# Altium footprint library PinHeader.PcbLib: 118 footprints (part 3 of 8)
Each footprint in its own frame and in the unit in brackets; x right, y up, seen from the top. Pads: shape width x height; smd on the part's side, far side on the other; paste and mask are expansions set on the pad; w line width, h text height; cw(c..) or ccw(c..) is an arc to the next point about the centre after c.
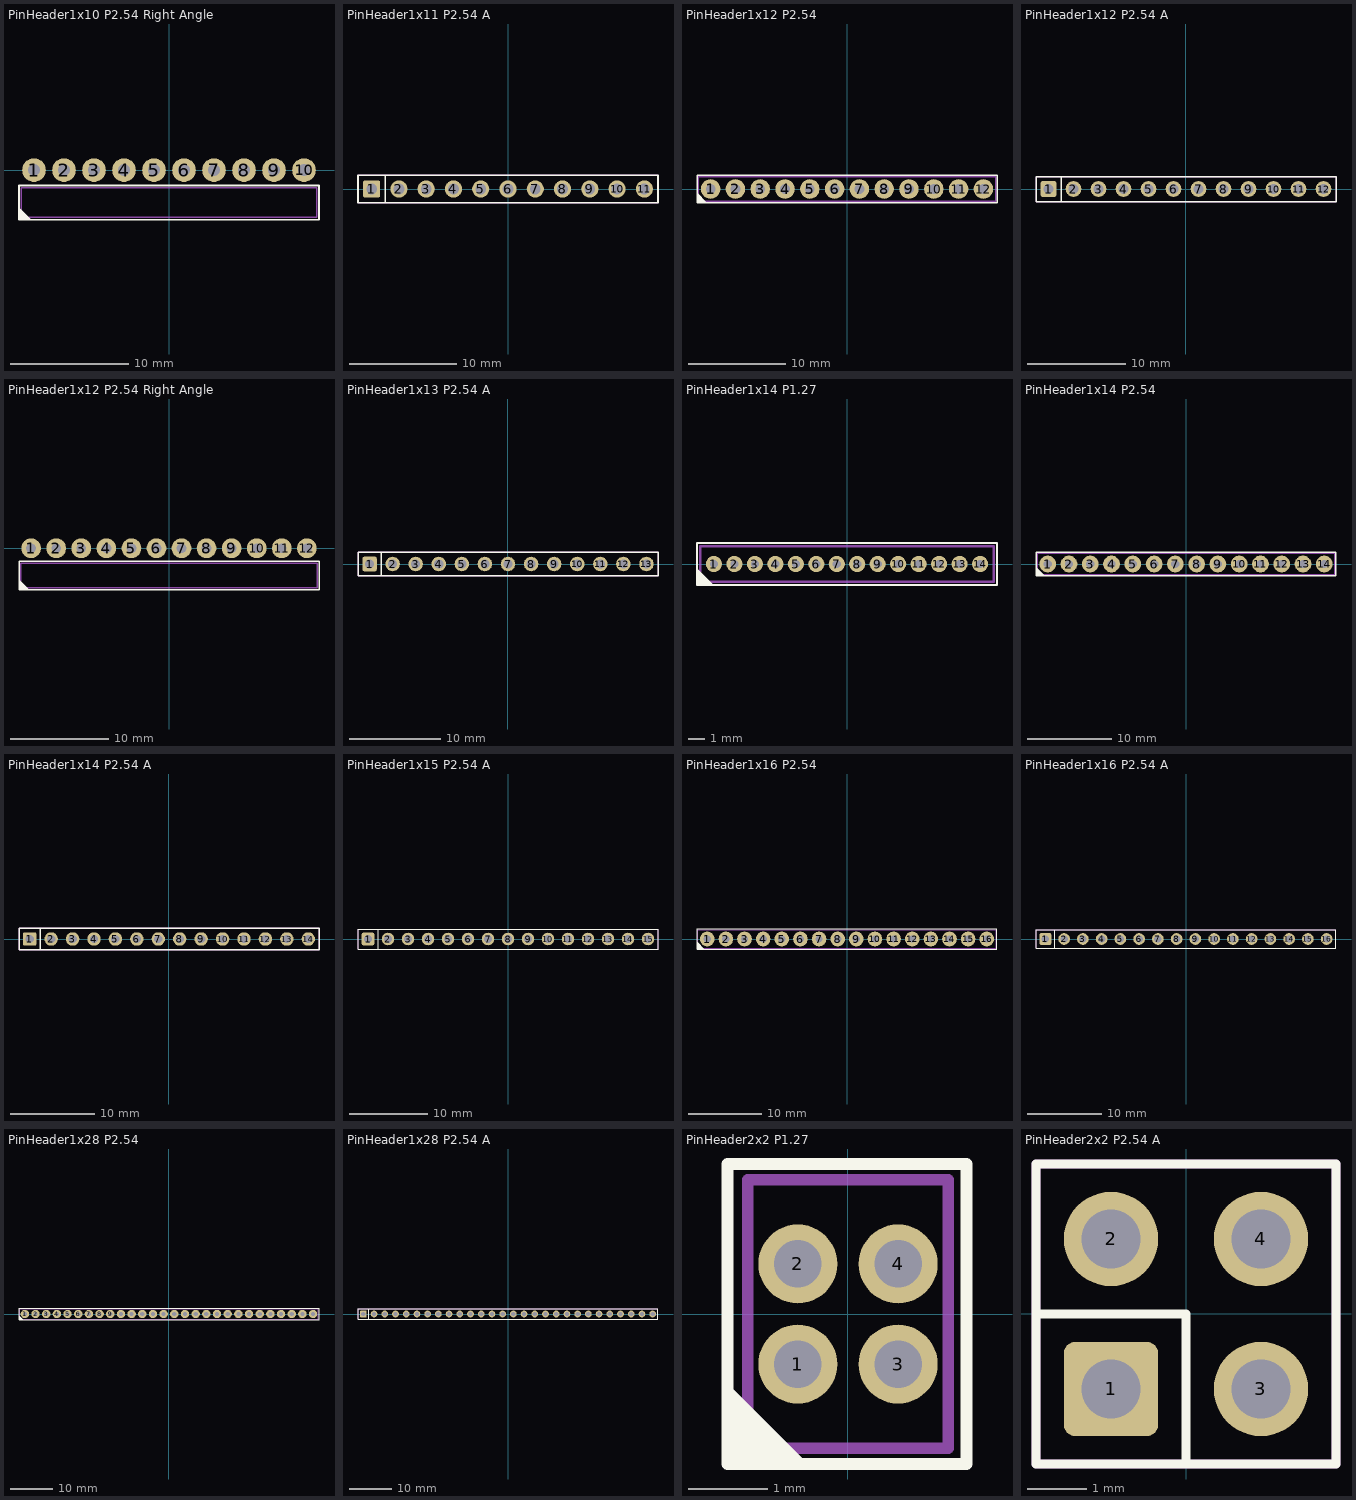
[diagram p2: the footprints below, top view; thin cyan lines are the x and y axes]

## PinHeader1x10 P2.54 Right Angle [mm] "Plug connector"
height 2.4
pads (10):
  round 2 hole 1: 1(-11.43,0) 2(-8.89,0) 3(-6.35,0) 4(-3.81,0) 5(-1.27,0) 6(1.27,0) 7(3.81,0) 8(6.35,0) 9(8.89,0) 10(11.43,0)
Top Overlay:
  region: -12.7,-4.2 -12.7,-3.184 -11.684,-4.2
  lines w0.15: -12.7,-4.2 12.7,-4.2 12.7,-1.3 -12.7,-1.3 -12.7,-4.2
Mechanical 13:
  lines w0.15: -12.5,-4 12.5,-4 12.5,-1.5 -12.5,-1.5 -12.5,-4
3D body: height 1.55, standoff -2.5, extent 11.13,-0.3 11.73,0.3
3D body: height 1.55, standoff 0.95, extent 11.13,-10 11.73,0
3D body: height 1.55, standoff 0.95, extent 8.59,-10 9.19,0
3D body: height 1.55, standoff -2.5, extent 8.59,-0.3 9.19,0.3
3D body: height 1.55, standoff -2.5, extent 6.05,-0.3 6.65,0.3
3D body: height 1.55, standoff 0.95, extent 6.05,-10 6.65,0
3D body: height 1.55, standoff 0.95, extent 3.51,-10 4.11,0
3D body: height 1.55, standoff -2.5, extent 3.51,-0.3 4.11,0.3
3D body: height 1.55, standoff -2.5, extent -4.11,-0.3 -3.51,0.3
3D body: height 1.55, standoff 0.95, extent -4.11,-10 -3.51,0
3D body: height 1.55, standoff -2.5, extent 0.97,-0.3 1.57,0.3
3D body: height 1.55, standoff 0.95, extent 0.97,-10 1.57,0
3D body: height 1.55, standoff 0.95, extent -1.57,-10 -0.97,0
3D body: height 1.55, standoff -2.5, extent -1.57,-0.3 -0.97,0.3
3D body: height 1.55, standoff -2.5, extent -9.19,-0.3 -8.59,0.3
3D body: height 1.55, standoff 0.95, extent -9.19,-10 -8.59,0
3D body: height 1.55, standoff 0.95, extent -11.73,-10 -11.13,0
3D body: height 2.4, standoff 0, extent -12.54,-4 12.5,-1.5
3D body: height 1.55, standoff -2.5, extent -11.73,-0.3 -11.13,0.3
3D body: height 1.55, standoff 0.95, extent -6.65,-10 -6.05,0
3D body: height 1.55, standoff -2.5, extent -6.65,-0.3 -6.05,0.3

## PinHeader1x11 P2.54 A [mm] "Plug connector"
height 8.5
pads (11):
  rrect25% 1.6x1.6 hole 1: 1(-12.7,0)
  round 1.6 hole 1: 2(-10.16,0) 3(-7.62,0) 4(-5.08,0) 5(-2.54,0) 6(0,0) 7(2.54,0) 8(5.08,0) 9(7.62,0) 10(10.16,0) 11(12.7,0)
Top Overlay:
  lines w0.15: -11.43,-1.27 -11.43,1.27 ; -13.97,-1.27 -13.97,1.27 13.97,1.27 13.97,-1.27 -13.97,-1.27
Mechanical 13:
  lines w0.15: -13.97,-1.27 13.97,-1.27 13.97,1.27 -13.97,1.27 -13.97,-1.27
3D body: height 8.5, standoff 2.6, extent -13.018,-0.318 13.018,0.318
3D body: height 2.5, standoff 0.1, extent -13.97,-1.27 13.97,1.27

## PinHeader1x12 P2.54 [mm] "Plug connector"
height 8.5
pads (12):
  round 2 hole 1: 1(-13.97,0) 2(-11.43,0) 3(-8.89,0) 4(-6.35,0) 5(-3.81,0) 6(-1.27,0) 7(1.27,0) 8(3.81,0) 9(6.35,0) 10(8.89,0) 11(11.43,0) 12(13.97,0)
Top Overlay:
  region: -15.367,-1.397 -15.367,-0.381 -14.351,-1.397
  lines w0.15: -15.367,-1.397 15.367,-1.397 15.367,1.397 -15.367,1.397 -15.367,-1.397
Mechanical 13:
  lines w0.15: -15.24,-1.27 -15.24,1.27 15.24,1.27 15.24,-1.27 -15.24,-1.27
3D body: height 8.5, standoff -2.5, extent 11.05,-0.38 11.811,0.381
3D body: height 8.5, standoff -2.5, extent 13.59,-0.38 14.351,0.381
3D body: height 8.5, standoff -2.5, extent 3.43,-0.38 4.191,0.381
3D body: height 8.5, standoff -2.5, extent 0.89,-0.38 1.651,0.381
3D body: height 8.5, standoff -2.5, extent -1.65,-0.38 -0.889,0.38
3D body: height 8.5, standoff -2.5, extent -6.73,-0.38 -5.969,0.38
3D body: height 8.5, standoff -2.5, extent -9.27,-0.38 -8.509,0.38
3D body: height 8.5, standoff -2.5, extent -11.81,-0.38 -11.05,0.38
3D body: height 8.5, standoff -2.5, extent -4.19,-0.38 -3.429,0.38
3D body: height 8.5, standoff -2.5, extent -14.35,-0.38 -13.59,0.38
3D body: height 2.54, standoff 0, extent -15.24,-1.27 15.24,1.27
3D body: height 8.5, standoff -2.5, extent 5.97,-0.38 6.731,0.38
3D body: height 8.5, standoff -2.5, extent 8.51,-0.38 9.271,0.38

## PinHeader1x12 P2.54 A [mm] "Plug connector"
height 8.5
pads (12):
  rrect25% 1.6x1.6 hole 1: 1(-13.97,0)
  round 1.6 hole 1: 2(-11.43,0) 3(-8.89,0) 4(-6.35,0) 5(-3.81,0) 6(-1.27,0) 7(1.27,0) 8(3.81,0) 9(6.35,0) 10(8.89,0) 11(11.43,0) 12(13.97,0)
Top Overlay:
  lines w0.15: -12.7,-1.27 -12.7,1.27 ; -15.24,-1.27 -15.24,1.27 15.24,1.27 15.24,-1.27 -15.24,-1.27
Mechanical 13:
  lines w0.15: -15.24,-1.27 15.24,-1.27 15.24,1.27 -15.24,1.27 -15.24,-1.27
3D body: height 8.5, standoff 2.6, extent -14.287,-0.318 14.287,0.318
3D body: height 2.5, standoff 0.1, extent -15.24,-1.27 15.24,1.27

## PinHeader1x12 P2.54 Right Angle [mm] "Plug connector"
height 2.4
pads (12):
  round 2 hole 1: 1(-13.97,0) 2(-11.43,0) 3(-8.89,0) 4(-6.35,0) 5(-3.81,0) 6(-1.27,0) 7(1.27,0) 8(3.81,0) 9(6.35,0) 10(8.89,0) 11(11.43,0) 12(13.97,0)
Top Overlay:
  region: -15.2,-4.2 -15.2,-3.184 -14.184,-4.2
  lines w0.15: -15.2,-4.2 -15.2,-1.3 15.2,-1.3 15.2,-4.2 -15.2,-4.2
Mechanical 13:
  lines w0.15: -15,-4 -15,-1.5 15,-1.5 15,-4 -15,-4
3D body: height 1.55, standoff -2.5, extent -9.19,-0.3 -8.59,0.3
3D body: height 1.55, standoff 0.95, extent -9.19,-10 -8.59,0
3D body: height 1.55, standoff -2.5, extent -14.27,-0.3 -13.67,0.3
3D body: height 2.4, standoff 0, extent -15,-4 15,-1.5
3D body: height 1.55, standoff 0.95, extent -14.27,-10 -13.67,0
3D body: height 1.55, standoff 0.95, extent -11.73,-10 -11.13,0
3D body: height 1.55, standoff -2.5, extent -11.73,-0.3 -11.13,0.3
3D body: height 1.55, standoff -2.5, extent -4.11,-0.3 -3.51,0.3
3D body: height 1.55, standoff 0.95, extent -4.11,-10 -3.51,0
3D body: height 1.55, standoff 0.95, extent -1.57,-10 -0.97,0
3D body: height 1.55, standoff -2.5, extent -1.57,-0.3 -0.97,0.3
3D body: height 1.55, standoff 0.95, extent -6.65,-10 -6.05,0
3D body: height 1.55, standoff -2.5, extent -6.65,-0.3 -6.05,0.3
3D body: height 1.55, standoff -2.5, extent 0.97,-0.3 1.57,0.3
3D body: height 1.55, standoff 0.95, extent 0.97,-10 1.57,0
3D body: height 1.55, standoff 0.95, extent 3.51,-10 4.11,0
3D body: height 1.55, standoff -2.5, extent 3.51,-0.3 4.11,0.3
3D body: height 1.55, standoff -2.5, extent 6.05,-0.3 6.65,0.3
3D body: height 1.55, standoff 0.95, extent 6.05,-10 6.65,0
3D body: height 1.55, standoff 0.95, extent 8.59,-10 9.19,0
3D body: height 1.55, standoff -2.5, extent 8.59,-0.3 9.19,0.3
3D body: height 1.55, standoff -2.5, extent 11.13,-0.3 11.73,0.3
3D body: height 1.55, standoff 0.95, extent 11.13,-10 11.73,0
3D body: height 1.55, standoff 0.95, extent 13.67,-10 14.27,0
3D body: height 1.55, standoff -2.5, extent 13.67,-0.3 14.27,0.3

## PinHeader1x13 P2.54 A [mm] "Plug connector"
height 8.5
pads (13):
  rrect25% 1.6x1.6 hole 1: 1(-15.24,0)
  round 1.6 hole 1: 2(-12.7,0) 3(-10.16,0) 4(-7.62,0) 5(-5.08,0) 6(-2.54,0) 7(0,0) 8(2.54,0) 9(5.08,0) 10(7.62,0) 11(10.16,0) 12(12.7,0) 13(15.24,0)
Top Overlay:
  lines w0.15: -13.97,-1.27 -13.97,1.27 ; -16.51,-1.27 16.51,-1.27 16.51,1.27 -16.51,1.27 -16.51,-1.27
Mechanical 13:
  lines w0.15: -16.51,-1.27 -16.51,1.27 16.51,1.27 16.51,-1.27 -16.51,-1.27
3D body: height 2.5, standoff 0.1, extent -16.51,-1.27 16.51,1.27
3D body: height 8.5, standoff 2.6, extent -15.557,-0.318 15.557,0.318

## PinHeader1x14 P1.27 [mm] "Plug connector"
height 5.3
pads (14):
  round 1 hole 0.5: 1(-8.255,0) 2(-6.985,0) 3(-5.715,0) 4(-4.445,0) 5(-3.175,0) 6(-1.905,0) 7(-0.635,0) 8(0.635,0) 9(1.905,0) 10(3.175,0) 11(4.445,0) 12(5.715,0) 13(6.985,0) 14(8.255,0)
Top Overlay:
  region: -9.3,-1.3 -9.3,-0.284 -8.284,-1.3
  lines w0.15: -9.3,-1.3 -9.3,1.3 9.3,1.3 9.3,-1.3 -9.3,-1.3
Mechanical 13:
  lines w0.15: -9.1,-1.1 9.1,-1.1 9.1,1.1 -9.1,1.1 -9.1,-1.1
3D body "pcb_connector_850-80-007-10-001101.stp": height 5.2, standoff -2.9, extent -9.095,-1.1 0.205,1.1
3D body "pcb_connector_850-80-007-10-001101.stp": height 5.2, standoff -2.9, extent -0.205,-1.1 9.095,1.1

## PinHeader1x14 P2.54 [mm] "Plug connector"
height 8.5
pads (14):
  round 2 hole 1: 1(-16.51,0) 2(-13.97,0) 3(-11.43,0) 4(-8.89,0) 5(-6.35,0) 6(-3.81,0) 7(-1.27,0) 8(1.27,0) 9(3.81,0) 10(6.35,0) 11(8.89,0) 12(11.43,0) 13(13.97,0) 14(16.51,0)
Top Overlay:
  region: -17.907,-1.397 -17.907,-0.381 -16.891,-1.397
  lines w0.15: 17.88,-1.397 -17.907,-1.397 -17.907,1.397 17.88,1.397 ; 17.907,-1.397 17.907,1.397
Mechanical 13:
  lines w0.15: -17.78,-1.27 -17.78,1.27 17.78,1.27 17.78,-1.27 -17.78,-1.27
3D body: height 8.5, standoff -2.5, extent 13.59,-0.38 14.351,0.38
3D body: height 8.5, standoff -2.5, extent 16.13,-0.38 16.891,0.38
3D body: height 8.5, standoff -2.5, extent 8.51,-0.38 9.271,0.381
3D body: height 8.5, standoff -2.5, extent 11.05,-0.38 11.811,0.381
3D body: height 8.5, standoff -2.5, extent 0.89,-0.38 1.651,0.381
3D body: height 8.5, standoff -2.5, extent -1.65,-0.38 -0.889,0.381
3D body: height 8.5, standoff -2.5, extent -4.19,-0.38 -3.429,0.38
3D body: height 8.5, standoff -2.5, extent -9.27,-0.38 -8.509,0.38
3D body: height 8.5, standoff -2.5, extent -11.81,-0.38 -11.049,0.38
3D body: height 8.5, standoff -2.5, extent -14.35,-0.38 -13.59,0.38
3D body: height 8.5, standoff -2.5, extent -6.73,-0.38 -5.969,0.38
3D body: height 8.5, standoff -2.5, extent -16.89,-0.38 -16.13,0.38
3D body: height 2.54, standoff 0, extent -17.78,-1.27 17.78,1.27
3D body: height 8.5, standoff -2.5, extent 3.43,-0.38 4.191,0.38
3D body: height 8.5, standoff -2.5, extent 5.97,-0.38 6.731,0.38

## PinHeader1x14 P2.54 A [mm] "Plug connector"
height 8.5
pads (14):
  rrect25% 1.6x1.6 hole 1: 1(-16.51,0)
  round 1.6 hole 1: 2(-13.97,0) 3(-11.43,0) 4(-8.89,0) 5(-6.35,0) 6(-3.81,0) 7(-1.27,0) 8(1.27,0) 9(3.81,0) 10(6.35,0) 11(8.89,0) 12(11.43,0) 13(13.97,0) 14(16.51,0)
Top Overlay:
  lines w0.15: -15.24,-1.27 -15.24,1.27 ; -17.78,-1.27 17.78,-1.27 17.78,1.27 -17.78,1.27 -17.78,-1.27
Mechanical 13:
  lines w0.15: -17.78,-1.27 17.78,-1.27 17.78,1.27 -17.78,1.27 -17.78,-1.27
3D body: height 2.5, standoff 0.1, extent -17.78,-1.27 17.78,1.27
3D body: height 8.5, standoff 2.6, extent -16.828,-0.318 16.828,0.318

## PinHeader1x15 P2.54 A [mm] "Plug connector"
height 8.5
pads (15):
  rrect25% 1.6x1.6 hole 1: 1(-17.78,0)
  round 1.6 hole 1: 2(-15.24,0) 3(-12.7,0) 4(-10.16,0) 5(-7.62,0) 6(-5.08,0) 7(-2.54,0) 8(0,0) 9(2.54,0) 10(5.08,0) 11(7.62,0) 12(10.16,0) 13(12.7,0) 14(15.24,0) 15(17.78,0)
Top Overlay:
  lines w0.15: -16.51,-1.27 -16.51,1.27 ; -19.05,-1.27 19.05,-1.27 19.05,1.27 -19.05,1.27 -19.05,-1.27
Mechanical 13:
  lines w0.15: -19.05,-1.27 19.05,-1.27 19.05,1.27 -19.05,1.27 -19.05,-1.27
3D body: height 2.5, standoff 0.1, extent -19.05,-1.27 19.05,1.27
3D body: height 8.5, standoff 2.6, extent -18.098,-0.318 18.098,0.318

## PinHeader1x16 P2.54 [mm] "Plug connector"
height 8.5
pads (16):
  round 2 hole 1: 1(-19.05,0) 2(-16.51,0) 3(-13.97,0) 4(-11.43,0) 5(-8.89,0) 6(-6.35,0) 7(-3.81,0) 8(-1.27,0) 9(1.27,0) 10(3.81,0) 11(6.35,0) 12(8.89,0) 13(11.43,0) 14(13.97,0) 15(16.51,0) 16(19.05,0)
Top Overlay:
  region: -20.447,-1.397 -20.447,-0.381 -19.431,-1.397
  lines w0.15: -20.447,-1.397 20.447,-1.397 20.447,1.397 -20.447,1.397 -20.447,-1.397
Mechanical 13:
  lines w0.15: -20.32,-1.27 -20.32,1.27 20.32,1.27 20.32,-1.27 -20.32,-1.27
3D body: height 8.5, standoff -2.5, extent 18.67,-0.38 19.431,0.38
3D body: height 8.5, standoff -2.5, extent 16.13,-0.38 16.891,0.381
3D body: height 8.5, standoff -2.5, extent 5.97,-0.38 6.731,0.381
3D body: height 8.5, standoff -2.5, extent 8.51,-0.38 9.271,0.381
3D body: height 8.5, standoff -2.5, extent -1.65,-0.38 -0.889,0.381
3D body: height 8.5, standoff -2.5, extent -4.19,-0.38 -3.429,0.381
3D body: height 8.5, standoff -2.5, extent 11.05,-0.38 11.811,0.38
3D body: height 8.5, standoff -2.5, extent 13.59,-0.38 14.351,0.38
3D body: height 8.5, standoff -2.5, extent -6.73,-0.38 -5.969,0.38
3D body: height 8.5, standoff -2.5, extent -11.81,-0.38 -11.049,0.38
3D body: height 8.5, standoff -2.5, extent -14.35,-0.38 -13.589,0.38
3D body: height 8.5, standoff -2.5, extent -16.89,-0.38 -16.13,0.38
3D body: height 8.5, standoff -2.5, extent -9.27,-0.38 -8.509,0.38
3D body: height 8.5, standoff -2.5, extent -19.43,-0.38 -18.67,0.38
3D body: height 2.54, standoff 0, extent -20.32,-1.27 20.32,1.27
3D body: height 8.5, standoff -2.5, extent 0.89,-0.38 1.651,0.38
3D body: height 8.5, standoff -2.5, extent 3.43,-0.38 4.191,0.38

## PinHeader1x16 P2.54 A [mm] "Plug connector"
height 8.5
pads (16):
  rrect25% 1.6x1.6 hole 1: 1(-19.05,0)
  round 1.6 hole 1: 2(-16.51,0) 3(-13.97,0) 4(-11.43,0) 5(-8.89,0) 6(-6.35,0) 7(-3.81,0) 8(-1.27,0) 9(1.27,0) 10(3.81,0) 11(6.35,0) 12(8.89,0) 13(11.43,0) 14(13.97,0) 15(16.51,0) 16(19.05,0)
Top Overlay:
  lines w0.15: -17.78,-1.27 -17.78,1.27 ; -20.32,-1.27 -20.32,1.27 20.32,1.27 20.32,-1.27 -20.32,-1.27
Mechanical 13:
  lines w0.15: -20.32,-1.27 -20.32,1.27 20.32,1.27 20.32,-1.27 -20.32,-1.27
3D body: height 8.5, standoff 2.6, extent -19.367,-0.318 19.367,0.318
3D body: height 2.5, standoff 0.1, extent -20.32,-1.27 20.32,1.27

## PinHeader1x28 P2.54 [mm] "Plug connector"
height 8.5
pads (28):
  round 2 hole 1: 1(-34.29,0) 2(-31.75,0) 3(-29.21,0) 4(-26.67,0) 5(-24.13,0) 6(-21.59,0) 7(-19.05,0) 8(-16.51,0) 9(-13.97,0) 10(-11.43,0) 11(-8.89,0) 12(-6.35,0) 13(-3.81,0) 14(-1.27,0) 15(1.27,0) 16(3.81,0) 17(6.35,0) 18(8.89,0) 19(11.43,0) 20(13.97,0) 21(16.51,0) 22(19.05,0) 23(21.59,0) 24(24.13,0) 25(26.67,0) 26(29.21,0) 27(31.75,0) 28(34.29,0)
Top Overlay:
  region: -35.687,-1.397 -35.687,-0.381 -34.671,-1.397
  lines w0.15: -35.687,-1.397 35.7,-1.397 35.7,1.397 -35.687,1.397 -35.687,-1.397
Mechanical 13:
  lines w0.15: -35.56,-1.27 -35.56,1.27 35.56,1.27 35.56,-1.27 -35.56,-1.27
3D body: height 8.5, standoff -2.5, extent 26.29,-0.38 27.051,0.38
3D body: height 8.5, standoff -2.5, extent 23.75,-0.38 24.511,0.38
3D body: height 8.5, standoff -2.5, extent 13.59,-0.38 14.351,0.38
3D body: height 8.5, standoff -2.5, extent 5.97,-0.38 6.73,0.38
3D body: height 8.5, standoff -2.5, extent 8.51,-0.38 9.271,0.38
3D body: height 8.5, standoff -2.5, extent 11.05,-0.38 11.811,0.38
3D body: height 8.5, standoff -2.5, extent 16.13,-0.38 16.891,0.38
3D body: height 8.5, standoff -2.5, extent 33.91,-0.38 34.671,0.38
3D body: height 8.5, standoff -2.5, extent 18.67,-0.38 19.431,0.381
3D body: height 8.5, standoff -2.5, extent 21.21,-0.38 21.971,0.381
3D body: height 8.5, standoff -2.5, extent 31.37,-0.38 32.131,0.381
3D body: height 8.5, standoff -2.5, extent 28.83,-0.38 29.591,0.381
3D body: height 8.5, standoff -2.5, extent 3.43,-0.38 4.191,0.38
3D body: height 8.5, standoff -2.5, extent 0.89,-0.38 1.651,0.381
3D body: height 8.5, standoff -2.5, extent -9.27,-0.38 -8.509,0.381
3D body: height 8.5, standoff -2.5, extent -6.73,-0.38 -5.969,0.381
3D body: height 8.5, standoff -2.5, extent -16.89,-0.38 -16.129,0.381
3D body: height 8.5, standoff -2.5, extent -19.43,-0.38 -18.669,0.381
3D body: height 8.5, standoff -2.5, extent -4.19,-0.38 -3.429,0.38
3D body: height 8.5, standoff -2.5, extent -1.65,-0.38 -0.889,0.38
3D body: height 8.5, standoff -2.5, extent -21.97,-0.38 -21.209,0.38
3D body: height 8.5, standoff -2.5, extent -27.05,-0.38 -26.289,0.38
3D body: height 8.5, standoff -2.5, extent -29.59,-0.38 -28.829,0.38
3D body: height 8.5, standoff -2.5, extent -32.13,-0.38 -31.37,0.38
3D body: height 8.5, standoff -2.5, extent -24.51,-0.38 -23.749,0.38
3D body: height 8.5, standoff -2.5, extent -34.67,-0.38 -33.91,0.38
3D body: height 2.54, standoff 0, extent -35.56,-1.27 35.56,1.27
3D body: height 8.5, standoff -2.5, extent -14.35,-0.38 -13.589,0.38
3D body: height 8.5, standoff -2.5, extent -11.81,-0.38 -11.049,0.38

## PinHeader1x28 P2.54 A [mm] "Plug connector"
height 8.5
pads (28):
  rrect25% 1.6x1.6 hole 1: 1(-34.29,0)
  round 1.6 hole 1: 2(-31.75,0) 3(-29.21,0) 4(-26.67,0) 5(-24.13,0) 6(-21.59,0) 7(-19.05,0) 8(-16.51,0) 9(-13.97,0) 10(-11.43,0) 11(-8.89,0) 12(-6.35,0) 13(-3.81,0) 14(-1.27,0) 15(1.27,0) 16(3.81,0) 17(6.35,0) 18(8.89,0) 19(11.43,0) 20(13.97,0) 21(16.51,0) 22(19.05,0) 23(21.59,0) 24(24.13,0) 25(26.67,0) 26(29.21,0) 27(31.75,0) 28(34.29,0)
Top Overlay:
  lines w0.15: -33.02,-1.27 -33.02,1.27 ; -35.56,-1.27 -35.56,1.27 35.56,1.27 35.56,-1.27 -35.56,-1.27
Mechanical 13:
  lines w0.15: -35.56,-1.27 -35.56,1.27 35.56,1.27 35.56,-1.27 -35.56,-1.27
3D body: height 8.5, standoff 2.6, extent -34.6,-0.318 34.6,0.318
3D body: height 2.5, standoff 0.1, extent -35.56,-1.27 35.56,1.27

## PinHeader2x2 P1.27 [mm] "Plug connector"
height 5.3
pads (4):
  round 1 hole 0.6: 1(-0.635,-0.635) 2(-0.635,0.635) 3(0.635,-0.635) 4(0.635,0.635)
Top Overlay:
  region: -1.525,-1.9 -1.525,-0.884 -0.509,-1.9
  lines w0.15: -1.425,-1.9 -1.46,-1.9 -1.525,-1.9 ; -1.525,-1.9 -1.525,1.5 -1.525,1.9 1.5,1.9 1.5,-1.9 -1.525,-1.9
Mechanical 13:
  lines w0.15: -1.27,-1.7 1.27,-1.7 1.27,1.7 -1.27,1.7 -1.27,-1.7
3D body "62200421121 (rev1).stp": height 5.31, standoff -2.29, extent -1.27,-1.7 1.27,1.7

## PinHeader2x2 P2.54 A [mm] "Plug connector"
height 8.5
pads (4):
  rrect25% 1.6x1.6 hole 1: 1(-1.27,-1.27)
  round 1.6 hole 1: 2(-1.27,1.27) 3(1.27,-1.27) 4(1.27,1.27)
Top Overlay:
  lines w0.15: -2.54,0 0,0 0,-2.54 ; -2.54,-2.54 2.54,-2.54 2.54,2.54 -2.54,2.54 -2.54,-2.54
Mechanical 13:
  lines w0.15: -2.54,-2.54 -2.54,2.54 2.54,2.54 2.54,-2.54 -2.54,-2.54
3D body: height 8.5, standoff 2.6, extent -1.587,-1.587 1.587,1.587
3D body: height 2.5, standoff 0.1, extent -2.54,-2.54 2.54,2.54